# Altium footprint library QUTMS_LEDLibrary.PcbLib: 8 footprints
Each footprint in its own frame and in the unit in brackets; x right, y up, seen from the top. Pads: shape width x height; smd on the part's side, far side on the other; paste and mask are expansions set on the pad; w line width, h text height; cw(c..) or ccw(c..) is an arc to the next point about the centre after c.
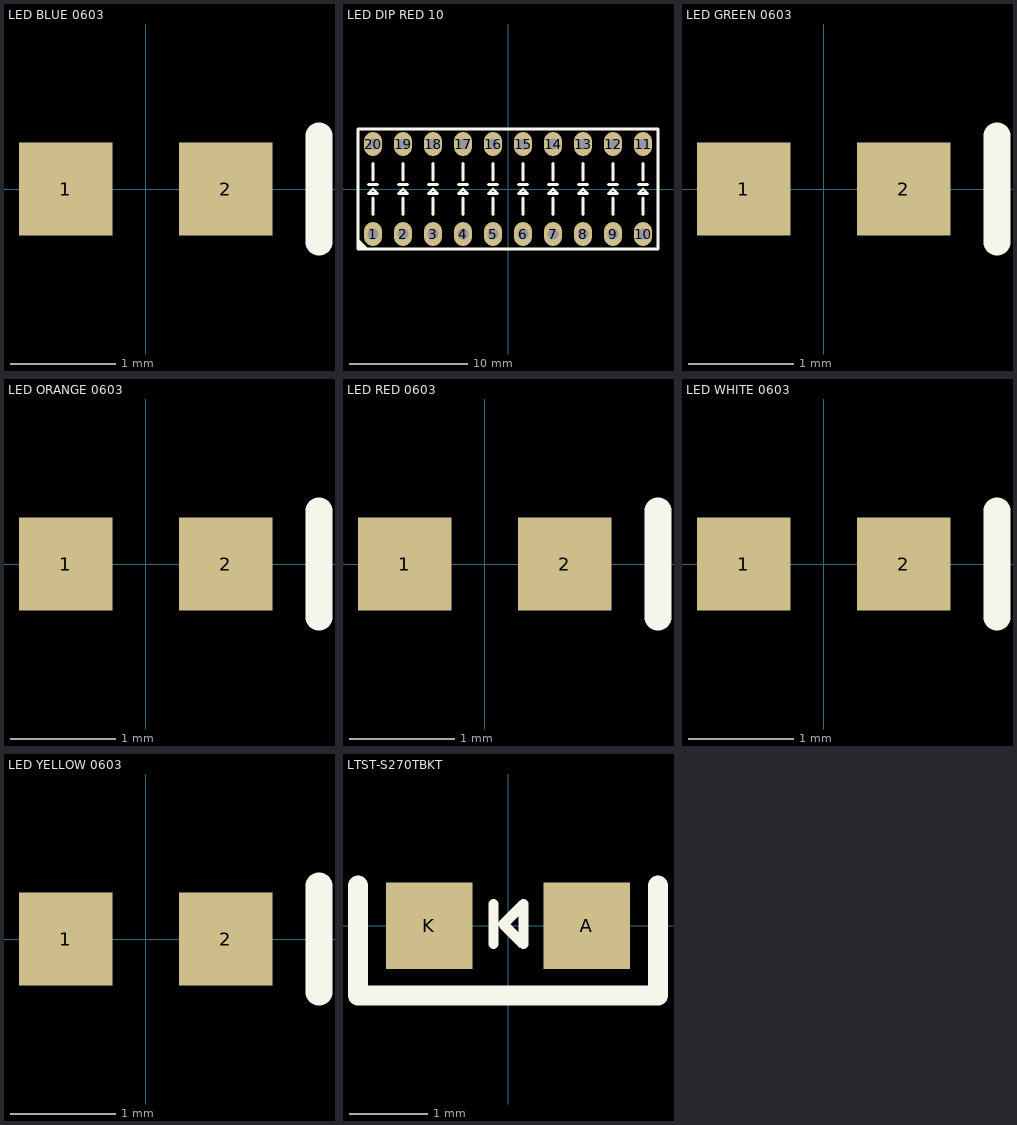
[diagram p0: the footprints below, top view; thin cyan lines are the x and y axes]

## LED BLUE 0603 [mil]
pads (2):
  rect 35x35 smd: 1(-30,0) 2(30,0)
Top Overlay:
  lines w10: 65,-20 65,20
3D body: height 30, standoff 1, extent -30,-17.5 30,17.5
3D body: height 7, standoff 0, extent -40,-20 40,20

## LED DIP RED 10 [mil]
pads (20):
  oval 60x80 hole 37: 1(-450,-150) 2(-350,-150) 3(-250,-150) 4(-150,-150) 5(-50,-150) 6(50,-150) 7(150,-150) 8(250,-150) 9(350,-150) 10(450,-150) 11(450,150) 12(350,150) 13(250,150) 14(150,150) 15(50,150) 16(-50,150) 17(-150,150) 18(-250,150) 19(-350,150) 20(-450,150)
Top Overlay:
  lines w10: -500,-190 -490,-200 ; -500,-180 -480,-200 ; -500,-170 -470,-200 -465,-200 ; -465,15 -435,15 ; -450,-85 -450,-30 ; -450,30 -450,85 ; -365,15 -335,15 ; -350,-85 -350,-30 ; -350,30 -350,85 ; -265,15 -235,15 ; -250,-85 -250,-30 ; -250,30 -250,85 ; -165,15 -135,15 ; -150,-85 -150,-30 ; -150,30 -150,85 ; -65,15 -35,15 ; -50,-85 -50,-30 ; -50,30 -50,85 ; 35,15 65,15 ; 50,-85 50,-30 ; 50,30 50,85 ; 135,15 165,15 ; 150,-85 150,-30 ; 150,30 150,85 ; 235,15 265,15 ; 250,-85 250,-30 ; 250,30 250,85 ; 335,15 365,15 ; 350,-85 350,-30 ; 350,30 350,85 ; 435,15 465,15 ; 450,-85 450,-30 ; 450,30 450,85 ; -500,-200 -500,200 500,200 500,-200 -500,-200 ; -465,-15 -450,0 -435,-15 -465,-15 ; -365,-15 -350,0 -335,-15 -365,-15 ; -265,-15 -250,0 -235,-15 -265,-15 ; -165,-15 -150,0 -135,-15 -165,-15 ; -65,-15 -50,0 -35,-15 -65,-15 ; 35,-15 50,0 65,-15 35,-15 ; 135,-15 150,0 165,-15 135,-15 ; 235,-15 250,0 265,-15 235,-15 ; 335,-15 350,0 365,-15 335,-15 ; 435,-15 450,0 465,-15 435,-15
3D body "DC-10.STEP": height 320, standoff -152.44, extent -500,-200 500,200

## LED GREEN 0603 [mil]
pads (2):
  rect 35x35 smd: 1(-30,0) 2(30,0)
Top Overlay:
  lines w10: 65,-20 65,20
3D body: height 7, standoff 0, extent -40,-20 40,20
3D body: height 30, standoff 1, extent -30,-17.5 30,17.5

## LED ORANGE 0603 [mil]
pads (2):
  rect 35x35 smd: 1(-30,0) 2(30,0)
Top Overlay:
  lines w10: 65,-20 65,20
3D body: height 7, standoff 0, extent -40,-20 40,20
3D body: height 30, standoff 1, extent -30,-17.5 30,17.5

## LED RED 0603 [mil]
pads (2):
  rect 35x35 smd: 1(-30,0) 2(30,0)
Top Overlay:
  lines w10: 65,-20 65,20
3D body: height 7, standoff 0, extent -40,-20 40,20
3D body: height 30, standoff 1, extent -30,-17.5 30,17.5

## LED WHITE 0603 [mil]
pads (2):
  rect 35x35 smd: 1(-30,0) 2(30,0)
Top Overlay:
  lines w10: 65,-20 65,20
3D body: height 7, standoff 0, extent -40,-20 40,20
3D body: height 30, standoff 1, extent -30,-17.5 30,17.5

## LED YELLOW 0603 [mil]
pads (2):
  rect 35x35 smd: 1(-30,0) 2(30,0)
Top Overlay:
  lines w10: 65,-20 65,20
3D body: height 30, standoff 1, extent -30,-17.5 30,17.5
3D body: height 7, standoff 0, extent -40,-20 40,20

## LTST-S270TBKT [mm]
pads (2):
  rect 1.1x1.1 smd: A(1,0) K(-1,0)
Top Overlay:
  lines w0.127: -0.187,-0.235 -0.187,0.273 ; -0.06,0.019 0.194,0.273 0.194,-0.235 -0.06,0.019
  lines w0.254: -1.905,0.508 -1.905,-0.889 1.905,-0.889 1.905,0.508
3D body "Lite-On - LTST-S220KGKT.step": height 0.6, standoff 0, extent -1.075,-0.25 1.075,0.751